# Altium footprint library SM_SOT-666.PcbLib: 1 footprints
Each footprint in its own frame and in the unit in brackets; x right, y up, seen from the top. Pads: shape width x height; smd on the part's side, far side on the other; paste and mask are expansions set on the pad; w line width, h text height; cw(c..) or ccw(c..) is an arc to the next point about the centre after c.
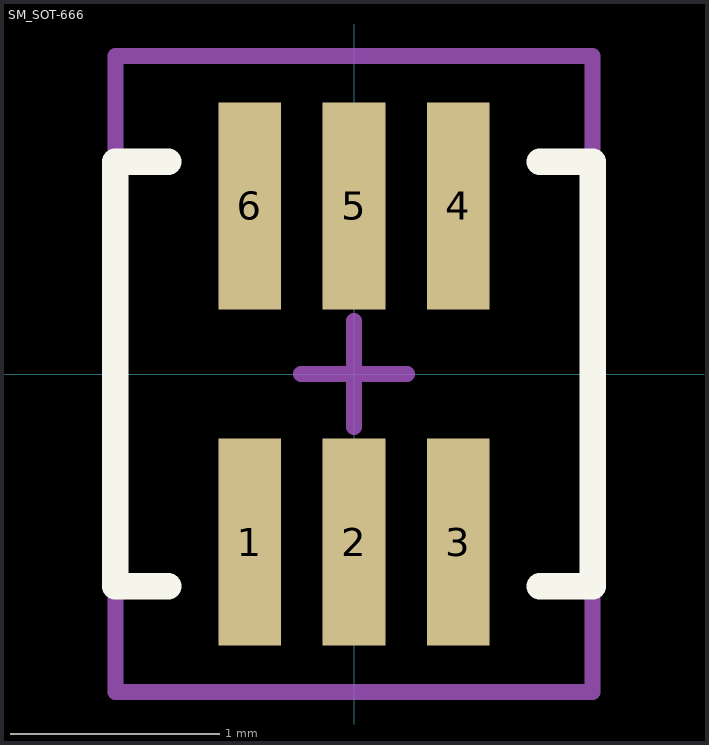
[diagram p0: the footprint, top view; thin cyan lines are the x and y axes]

## SM_SOT-666 [mm]
pads (6):
  rect 0.3x0.99 smd mask+0.076: 1(-0.5,-0.805) 2(0,-0.805) 3(0.5,-0.805) 4(0.5,0.805) 5(0,0.805) 6(-0.5,0.805)
Top Overlay:
  lines w0.127: -0.889,-1.016 -1.143,-1.016 -1.143,1.016 -0.889,1.016 ; 0.889,-1.016 1.143,-1.016 1.143,1.016 0.889,1.016
Mechanical 15:
  lines w0.076: -0.254,0 0.254,0 ; 0,-0.254 0,0.254 ; -1.143,-1.524 -1.143,1.524 1.143,1.524 1.143,-1.524 -1.143,-1.524
3D body "SOT-666.step": height 0.61, standoff 0, extent -0.851,-0.851 0.851,0.851